# Altium schematic symbol library EADOGM132W.SchLib: 1 symbol
Pins are listed as number, name and electrical type; pins without a type are passive.

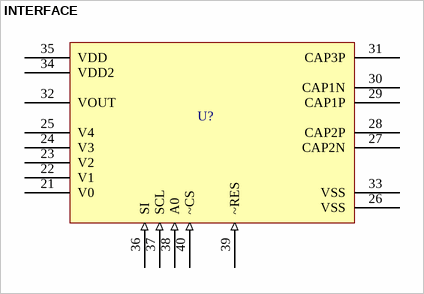
[diagram p0: symbol INTERFACE]

## INTERFACE
designator U?  (value not drawn)
footprint INTERFACE
pins: 21 V0 (power), 22 V1 (power), 23 V2 (power), 24 V3 (power), 25 V4 (power), 26 VSS (power), 27 CAP2N, 28 CAP2P, 29 CAP1P, 30 CAP1N, 31 CAP3P, 32 VOUT (power), 33 VSS (power), 34 VDD2 (power), 35 VDD (power), 36 SI (in), 37 SCL (in), 38 A0 (in), 39 ~RES (in), 40 ~CS (in)